# Altium schematic symbol library JUMPER_NC.SchLib: 1 symbol
Pins are listed as number, name and electrical type; pins without a type are passive.

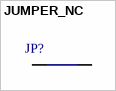
[diagram p0: symbol JUMPER_NC]

## JUMPER_NC
designator JP?  (no BOM)
pins: 1, 2